# EAGLE library part LOLIN_S2_MINI (library LolinS2_Mini)
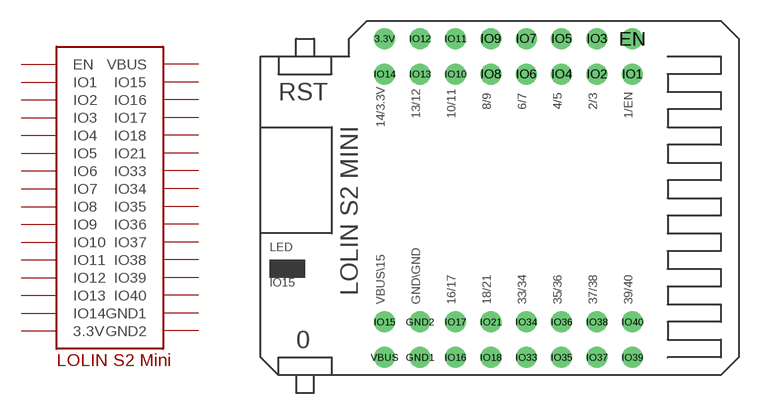
[diagram p0: symbol with the pads of LOLIN_S2_MINI; footprint LOLIN_S2_MINI]

Designator prefix -

## LOLIN_S2_MINI  [LOLIN_S2_MINI]
3.3V  3.3V  pwr
EN  EN
GND1  GND1  pwr
GND2  GND2  pwr
IO1  IO1
IO2  IO2
IO3  IO3
IO4  IO4
IO5  IO5
IO6  IO6
IO7  IO7
IO8  IO8
IO9  IO9
IO10  IO10
IO11  IO11
IO12  IO12
IO13  IO13
IO14  IO14
IO15  IO15
IO16  IO16
IO17  IO17
IO18  IO18
IO21  IO21
IO33  IO33
IO34  IO34
IO35  IO35
IO36  IO36
IO37  IO37
IO38  IO38
IO39  IO39
IO40  IO40
VBUS  VBUS  pwr

## Footprint LOLIN_S2_MINI (pad centres in mm)
drill 1: 3.3V -8.89,10.16; EN 8.89,10.16; GND1 -6.35,-12.7; GND2 -6.35,-10.16; IO1 8.89,7.62; IO2 6.35,7.62; IO3 6.35,10.16; IO4 3.81,7.62; IO5 3.81,10.16; IO6 1.27,7.62; IO7 1.27,10.16; IO8 -1.27,7.62; IO9 -1.27,10.16; IO10 -3.81,7.62; IO11 -3.81,10.16; IO12 -6.35,10.16; IO13 -6.35,7.62; IO14 -8.89,7.62; IO15 -8.89,-10.16; IO16 -3.81,-12.7; IO17 -3.81,-10.16; IO18 -1.27,-12.7; IO21 -1.27,-10.16; IO33 1.27,-12.7; IO34 1.27,-10.16; IO35 3.81,-12.7; IO36 3.81,-10.16; IO37 6.35,-12.7; IO38 6.35,-10.16; IO39 8.89,-12.7; IO40 8.89,-10.16; VBUS -8.89,-12.7